# EAGLE library part TPS62172 (library gimbal)
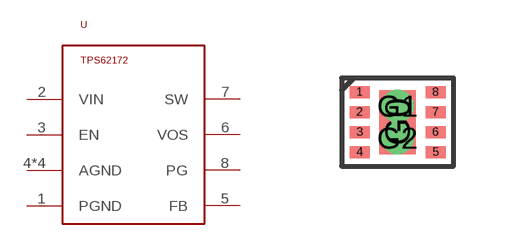
[diagram p5: symbol with the pads of PWSON8; footprint PWSON8]

Designator prefix -

## TPS62172PWSON8  [PWSON8]
1  PGND
2  VIN
3  EN
4  AGND
5  FB
6  VOS
7  SW
8  PG
G0  AGND
G1  AGND
G2  AGND

## Footprint PWSON8 (pad centres in mm)
smd 0.5 x 0.3: 1 -0.95,0.75; 2 -0.95,0.25; 3 -0.95,-0.25; 4 -0.95,-0.75; 5 0.95,-0.75; 6 0.95,-0.25; 7 0.95,0.25; 8 0.95,0.75
smd 0.9 x 1.6: G0 0,0
drill 0.305 pad 0.61: G1 0,0.4; G2 0,-0.4